# EAGLE library part CM1293A (library smight)
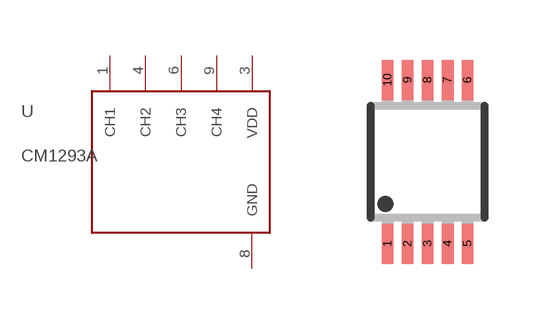
[diagram p1: symbol with the pads of MSOP10; footprint MSOP10]

Designator prefix -

## CM1293A  [MSOP10]
1  CH1
3  VDD  pwr
4  CH2
6  CH3
8  GND  pwr
9  CH4

## Footprint MSOP10 (pad centres in mm)
10 Lead Platic MSOP Source: http://www.linear.com .. LT1996
smd 0.3 x 1: 1 -1,-2.05; 2 -0.5,-2.05; 3 0,-2.05; 4 0.5,-2.05; 5 1,-2.05; 6 1,2.05; 7 0.5,2.05; 8 0,2.05; 9 -0.5,2.05; 10 -1,2.05